# Altium footprint library AS1D-2M-10-Z.PcbLib: 1 footprints
Each footprint in its own frame and in the unit in brackets; x right, y up, seen from the top. Pads: shape width x height; smd on the part's side, far side on the other; paste and mask are expansions set on the pad; w line width, h text height; cw(c..) or ccw(c..) is an arc to the next point about the centre after c.
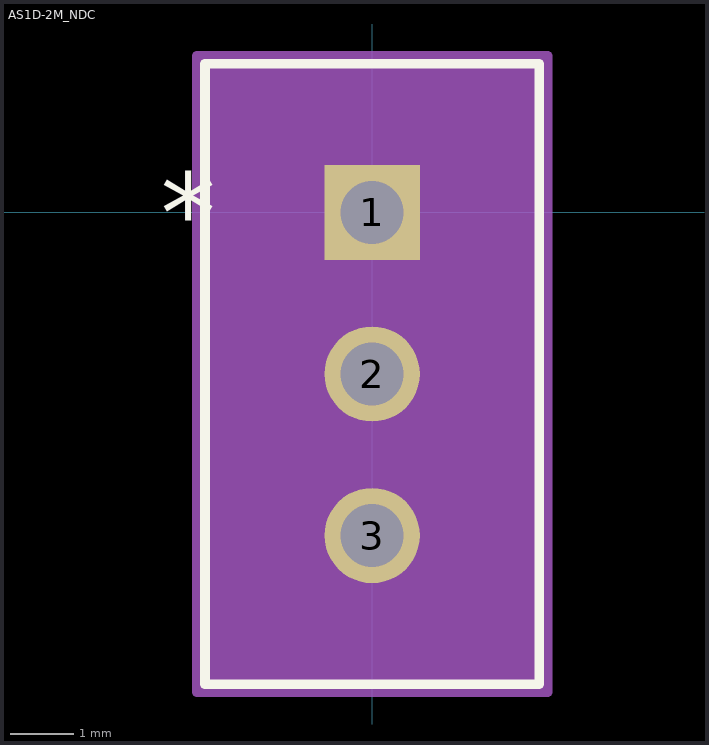
[diagram p0: the footprint, top view; thin cyan lines are the x and y axes]

## AS1D-2M_NDC [mil]
pads (3):
  rect 59x59 / inner round 60 / far side rect 59x59 hole 39 paste-29.5 mask+0: 1(0,0)
  round 59 / inner round 60 / far side round 59 hole 39 paste-29.5 mask+0: 2(0,-100) 3(0,-200)
Top Overlay:
  lines w6: -103.5,-292 103.5,-292 103.5,92 -103.5,92 -103.5,-292
  text "*" at -131,-25 h50
Mechanical 13:
  region: 43.5,-186.5 -43.5,-186.5 -43.5,-100 43.5,-100
  lines w1: -98.5,-287 98.5,-287 98.5,87 -98.5,87 -98.5,-287 ; -43.5,-186.5 -43.5,-13.5 43.5,-13.5 43.5,-186.5 -43.5,-186.5
  text "*" at -96,-25 h50
Mechanical 15:
  region: 108.5,-297 -108.5,-297 -108.5,97 108.5,97
  lines w6: -108.5,-297 108.5,-297 108.5,97 -108.5,97 -108.5,-297